# EAGLE library part SQJ96XEP (library SQJ960EP - dual N-FET)
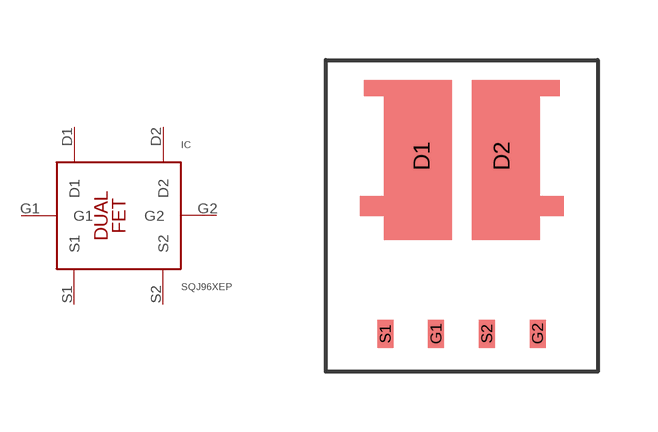
[diagram p0: symbol with the pads of SO-8L; footprint SO-8L]

Designator prefix IC

## SQJ96XEP  [SO-8L]
D1  D1
D2  D2
G1  G1
G2  G2
S1  S1
S2  S2

## Footprint SO-8L (pad centres in mm)
smd 0.58 x 2.5: D1 -1,1.5; D2 1,1.5
smd 0.4 x 0.7: G1 -0.64,-2.95; G2 1.9,-2.95; S1 -1.91,-2.95; S2 0.63,-2.95